# EAGLE library part 1292-150 (library con-commcon)
.800" BOARD SPACE 2mm CONNECTORS - HI TEMP 6 ROW 2mm - STACKTHROUGH
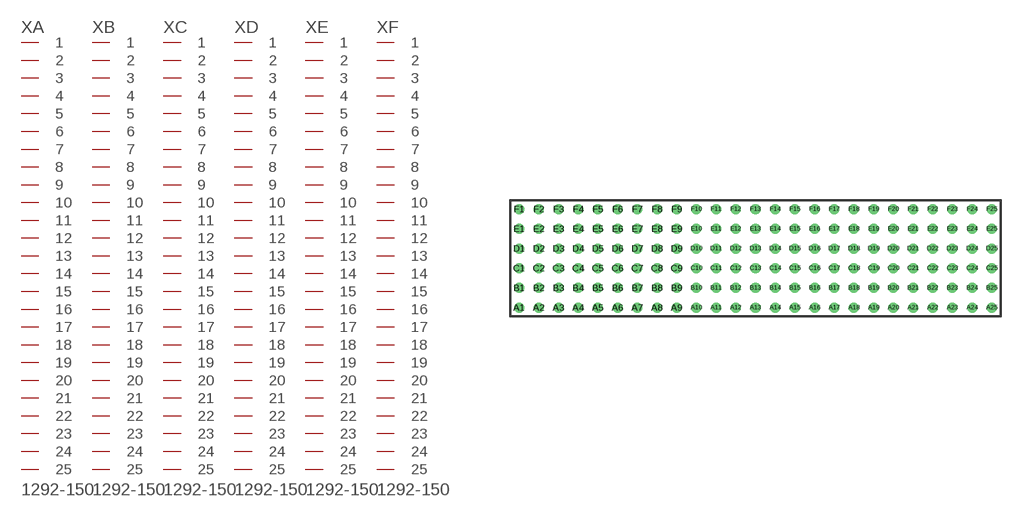
[diagram p4: symbol with the pads of 1292-150; footprint 1292-150]

Designator prefix X; gates A=PIN25 B=PIN25 C=PIN25 D=PIN25 E=PIN25 F=PIN25

## 1292-150 (OC_FARNELL: unknown; OC_NEWARK: unknown)  [1292-150]
A1  A:1  pas
A2  A:2  pas
A3  A:3  pas
A4  A:4  pas
A5  A:5  pas
A6  A:6  pas
A7  A:7  pas
A8  A:8  pas
A9  A:9  pas
A10  A:10  pas
A11  A:11  pas
A12  A:12  pas
A13  A:13  pas
A14  A:14  pas
A15  A:15  pas
A16  A:16  pas
A17  A:17  pas
A18  A:18  pas
A19  A:19  pas
A20  A:20  pas
A21  A:21  pas
A22  A:22  pas
A23  A:23  pas
A24  A:24  pas
A25  A:25  pas
B1  B:1  pas
B2  B:2  pas
B3  B:3  pas
B4  B:4  pas
B5  B:5  pas
B6  B:6  pas
B7  B:7  pas
B8  B:8  pas
B9  B:9  pas
B10  B:10  pas
B11  B:11  pas
B12  B:12  pas
B13  B:13  pas
B14  B:14  pas
B15  B:15  pas
B16  B:16  pas
B17  B:17  pas
B18  B:18  pas
B19  B:19  pas
B20  B:20  pas
B21  B:21  pas
B22  B:22  pas
B23  B:23  pas
B24  B:24  pas
B25  B:25  pas
C1  C:1  pas
C2  C:2  pas
C3  C:3  pas
C4  C:4  pas
C5  C:5  pas
C6  C:6  pas
C7  C:7  pas
C8  C:8  pas
C9  C:9  pas
C10  C:10  pas
C11  C:11  pas
C12  C:12  pas
C13  C:13  pas
C14  C:14  pas
C15  C:15  pas
C16  C:16  pas
C17  C:17  pas
C18  C:18  pas
C19  C:19  pas
C20  C:20  pas
C21  C:21  pas
C22  C:22  pas
C23  C:23  pas
C24  C:24  pas
C25  C:25  pas
D1  D:1  pas
D2  D:2  pas
D3  D:3  pas
D4  D:4  pas
D5  D:5  pas
D6  D:6  pas
D7  D:7  pas
D8  D:8  pas
D9  D:9  pas
D10  D:10  pas
D11  D:11  pas
D12  D:12  pas
D13  D:13  pas
D14  D:14  pas
D15  D:15  pas
D16  D:16  pas
D17  D:17  pas
D18  D:18  pas
D19  D:19  pas
D20  D:20  pas
D21  D:21  pas
D22  D:22  pas
D23  D:23  pas
D24  D:24  pas
D25  D:25  pas
E1  E:1  pas
E2  E:2  pas
E3  E:3  pas
E4  E:4  pas
E5  E:5  pas
E6  E:6  pas
E7  E:7  pas
E8  E:8  pas
E9  E:9  pas
E10  E:10  pas
E11  E:11  pas
E12  E:12  pas
E13  E:13  pas
E14  E:14  pas
E15  E:15  pas
E16  E:16  pas
E17  E:17  pas
E18  E:18  pas
E19  E:19  pas
E20  E:20  pas
E21  E:21  pas
E22  E:22  pas
E23  E:23  pas
E24  E:24  pas
E25  E:25  pas
F1  F:1  pas
F2  F:2  pas
F3  F:3  pas
F4  F:4  pas
F5  F:5  pas
F6  F:6  pas
F7  F:7  pas
F8  F:8  pas
F9  F:9  pas
F10  F:10  pas
F11  F:11  pas
F12  F:12  pas
F13  F:13  pas
F14  F:14  pas
F15  F:15  pas
F16  F:16  pas
F17  F:17  pas
F18  F:18  pas
F19  F:19  pas
F20  F:20  pas
F21  F:21  pas
F22  F:22  pas
F23  F:23  pas
F24  F:24  pas
F25  F:25  pas

## Footprint 1292-150 (pad centres in mm)
.800" BOARD SPACE 2mm CONNECTORS - HI TEMP 6 ROW 2mm - STACKTHROUGH
drill 0.508 round: A1 -24,-5; A2 -22,-5; A3 -20,-5; A4 -18,-5; A5 -16,-5; A6 -14,-5; A7 -12,-5; A8 -10,-5; A9 -8,-5; A10 -6,-5; A11 -4,-5; A12 -2,-5; A13 0,-5; A14 2,-5; A15 4,-5; A16 6,-5; A17 8,-5; A18 10,-5; A19 12,-5; A20 14,-5; A21 16,-5; A22 18,-5; A23 20,-5; A24 22,-5; A25 24,-5; B1 -24,-3; B2 -22,-3; B3 -20,-3; B4 -18,-3; B5 -16,-3; B6 -14,-3; B7 -12,-3; B8 -10,-3; B9 -8,-3; B10 -6,-3; B11 -4,-3; B12 -2,-3; B13 0,-3; B14 2,-3; B15 4,-3; B16 6,-3; B17 8,-3; B18 10,-3; B19 12,-3; B20 14,-3; B21 16,-3; B22 18,-3; B23 20,-3; B24 22,-3; B25 24,-3; C1 -24,-1; C2 -22,-1; C3 -20,-1; C4 -18,-1; C5 -16,-1; C6 -14,-1; C7 -12,-1; C8 -10,-1; C9 -8,-1; C10 -6,-1; C11 -4,-1; C12 -2,-1; C13 0,-1; C14 2,-1; C15 4,-1; C16 6,-1; C17 8,-1; C18 10,-1; C19 12,-1; C20 14,-1; C21 16,-1; C22 18,-1; C23 20,-1; C24 22,-1; C25 24,-1; D1 -24,1; D2 -22,1; D3 -20,1; D4 -18,1; D5 -16,1; D6 -14,1; D7 -12,1; D8 -10,1; D9 -8,1; D10 -6,1; D11 -4,1; D12 -2,1; D13 0,1; D14 2,1; D15 4,1; D16 6,1; D17 8,1; D18 10,1; D19 12,1; D20 14,1; D21 16,1; D22 18,1; D23 20,1; D24 22,1; D25 24,1; E1 -24,3; E2 -22,3; E3 -20,3; E4 -18,3; E5 -16,3; E6 -14,3; E7 -12,3; E8 -10,3; E9 -8,3; E10 -6,3; E11 -4,3; E12 -2,3; E13 0,3; E14 2,3; E15 4,3; E16 6,3; E17 8,3; E18 10,3; E19 12,3; E20 14,3; E21 16,3; E22 18,3; E23 20,3; E24 22,3; E25 24,3; F1 -24,5; F2 -22,5; F3 -20,5; F4 -18,5; F5 -16,5; F6 -14,5; F7 -12,5; F8 -10,5; F9 -8,5; F10 -6,5; F11 -4,5; F12 -2,5; F13 0,5; F14 2,5; F15 4,5; F16 6,5; F17 8,5; F18 10,5; F19 12,5; F20 14,5; F21 16,5; F22 18,5; F23 20,5; F24 22,5; F25 24,5